# Altium schematic symbol library Buzzer.SchLib: 1 symbol
Pins are listed as number, name and electrical type; pins without a type are passive.

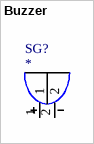
[diagram p0: symbol Buzzer]

## Buzzer
designator SG?
Catalog: *; Catalog number: *; Price: *; Value: *
footprint AI-1223-TWT-5V-R
pins: 1, 2